# Altium schematic symbol library MIC2007YM6TR.Schlib: 1 symbol
Pins are listed as number, name and electrical type; pins without a type are passive.

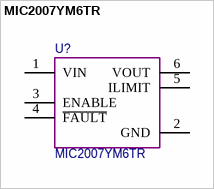
[diagram p0: symbol MIC2007YM6TR]

## MIC2007YM6TR
designator U?
pins: 1 VIN, 2 GND, 3 ENABLE, 4 ~{FAULT}, 5 ILIMIT, 6 VOUT